# EAGLE library part CD74HC154M (library 4x4x4_led_cube)
High-Speed CMOS Logic 4- to 16-Line Decoder/Demultiplexer
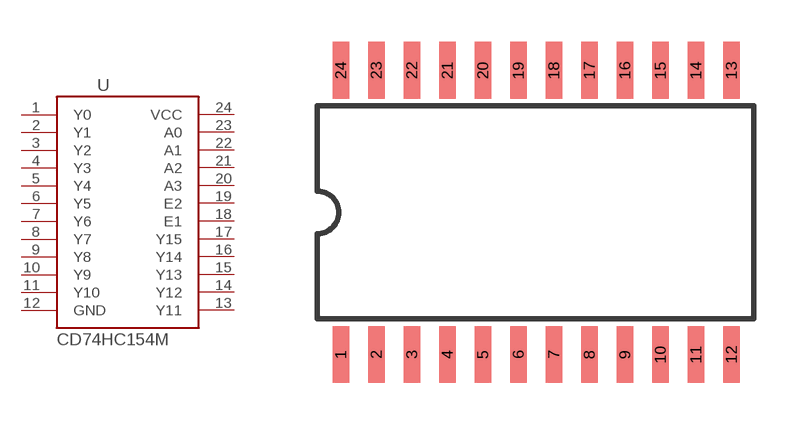
[diagram p3: symbol with the pads of SO-24DW; footprint SO-24DW]

Designator prefix -

## CD74HC154M  [SO-24DW]
1  Y0
2  Y1
3  Y2
4  Y3
5  Y4
6  Y5
7  Y6
8  Y7
9  Y8
10  Y9
11  Y10
12  GND
13  Y11
14  Y12
15  Y13
16  Y14
17  Y15
18  E1
19  E2
20  A3
21  A2
22  A1
23  A0
24  VCC

## Footprint SO-24DW (pad centres in mm)
300-mil body, package type SO
smd 0.584 x 2.032: 1 -6.35,-5.08; 2 -5.08,-5.08; 3 -3.81,-5.08; 4 -2.54,-5.08; 5 -1.27,-5.08; 6 0,-5.08; 7 1.27,-5.08; 8 2.54,-5.08; 9 3.81,-5.08; 10 5.08,-5.08; 11 6.35,-5.08; 12 7.62,-5.08; 13 7.62,5.08; 14 6.35,5.08; 15 5.08,5.08; 16 3.81,5.08; 17 2.54,5.08; 18 1.27,5.08; 19 0,5.08; 20 -1.27,5.08; 21 -2.54,5.08; 22 -3.81,5.08; 23 -5.08,5.08; 24 -6.35,5.08